# EAGLE library part SMF05C (library smf05c)
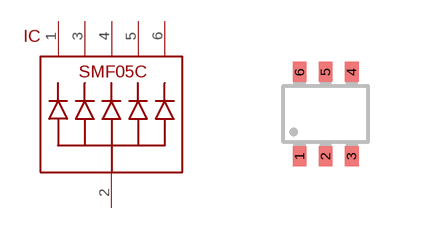
[diagram p0: symbol with the pads of SC-70-6; footprint SC-70-6]

Designator prefix IC

## SMF05C  [SC-70-6]
1  1
2  2
3  3
4  4
5  5
6  6

## Footprint SC-70-6 (pad centres in mm)
Texas Instruments Package SC-70-6 (-DCK)
smd 0.35 x 0.5: 1 -0.65,-1.05; 2 0,-1.05; 3 0.65,-1.05; 4 0.65,1.05; 5 0,1.05; 6 -0.65,1.05